# Altium footprint library Connector_PinSocket_1.27mm.PcbLib: 246 footprints (part 12 of 16)
Each footprint in its own frame and in the unit in brackets; x right, y up, seen from the top. Pads: shape width x height; smd on the part's side, far side on the other; paste and mask are expansions set on the pad; w line width, h text height; cw(c..) or ccw(c..) is an arc to the next point about the centre after c.
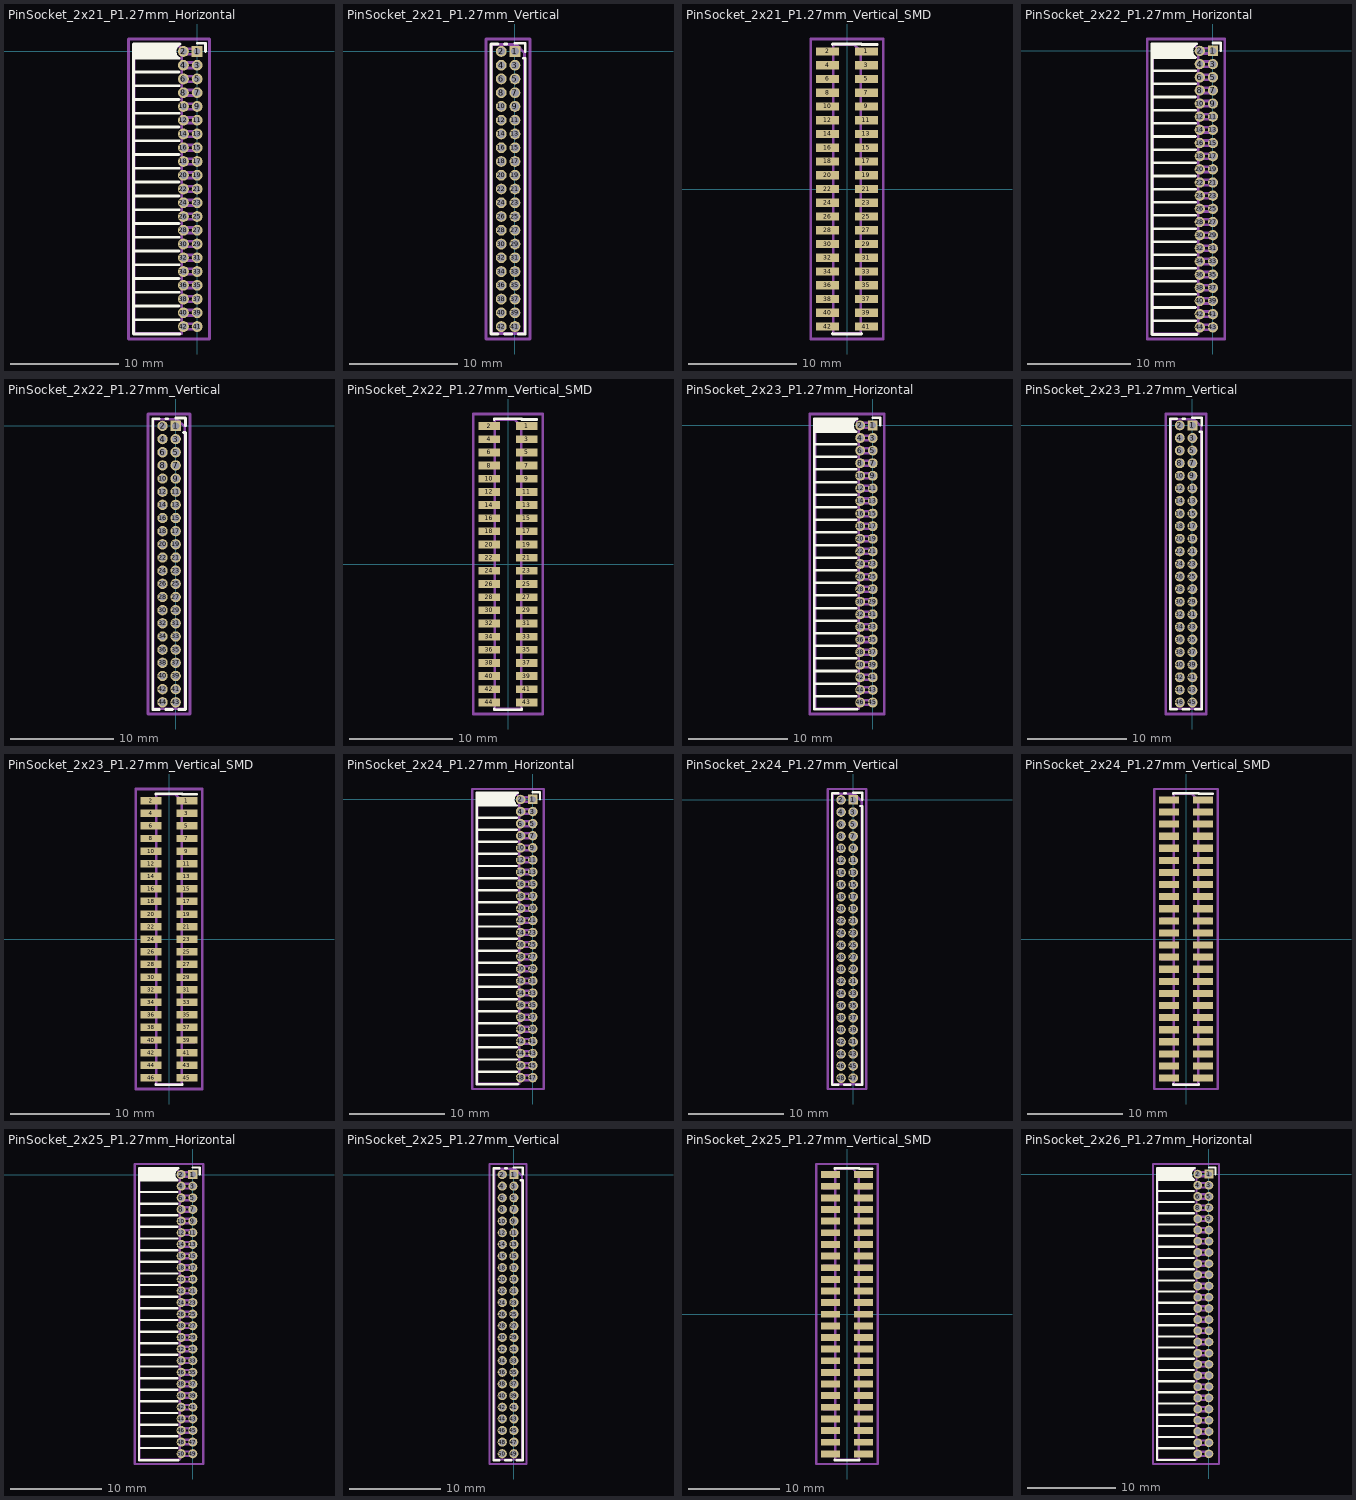
[diagram p11: the footprints below, top view; thin cyan lines are the x and y axes]

## PinSocket_2x21_P1.27mm_Horizontal [mm]
pads (42):
  rect 1x1 hole 0.65: 1(0,0)
  round 1 hole 0.65: 2(-1.27,0) 3(0,-1.27) 4(-1.27,-1.27) 5(0,-2.54) 6(-1.27,-2.54) 7(0,-3.81) 8(-1.27,-3.81) 9(0,-5.08) 10(-1.27,-5.08) 11(0,-6.35) 12(-1.27,-6.35) 13(0,-7.62) 14(-1.27,-7.62) 15(0,-8.89) 16(-1.27,-8.89) 17(0,-10.16) 18(-1.27,-10.16) 19(0,-11.43) 20(-1.27,-11.43) 21(0,-12.7) 22(-1.27,-12.7) 23(0,-13.97) 24(-1.27,-13.97) 25(0,-15.24) 26(-1.27,-15.24) 27(0,-16.51) 28(-1.27,-16.51) 29(0,-17.78) 30(-1.27,-17.78) 31(0,-19.05) 32(-1.27,-19.05) 33(0,-20.32) 34(-1.27,-20.32) 35(0,-21.59) 36(-1.27,-21.59) 37(0,-22.86) 38(-1.27,-22.86) 39(0,-24.13) 40(-1.27,-24.13) 41(0,-25.4) 42(-1.27,-25.4)
F.SilkS:
  lines w0.254: -5.88,-24.765 -1.688,-24.765 ; -5.88,-23.495 -1.688,-23.495 ; -5.88,-22.225 -1.688,-22.225 ; -5.88,-20.955 -1.688,-20.955 ; -5.88,-19.685 -1.688,-19.685 ; -5.88,-18.415 -1.688,-18.415 ; -5.88,-17.145 -1.688,-17.145 ; -5.88,-15.875 -1.688,-15.875 ; -5.88,-14.605 -1.688,-14.605 ; -5.88,-13.335 -1.688,-13.335 ; -5.88,-12.065 -1.688,-12.065 ; -5.88,-10.795 -1.688,-10.795 ; -5.88,-9.525 -1.688,-9.525 ; -5.88,-8.255 -1.688,-8.255 ; -5.88,-6.985 -1.688,-6.985 ; -5.88,-5.715 -1.688,-5.715 ; -5.88,-4.445 -1.688,-4.445 ; -5.88,-3.175 -1.688,-3.175 ; -5.88,-1.905 -1.688,-1.905 ; -5.88,-0.635 -1.688,-0.635 ; -5.88,-0.525 -1.82,-0.525 ; -5.88,-0.415 -1.907,-0.415 ; -5.88,-0.305 -1.966,-0.305 ; -5.88,-0.195 -2.005,-0.195 ; -5.88,-0.085 -2.025,-0.085 ; -5.88,0.025 -2.03,0.025 ; -5.88,0.135 -2.018,0.135 ; -5.88,0.245 -1.989,0.245 ; -5.88,0.355 -1.942,0.355 ; -5.88,0.465 -1.871,0.465 ; -5.88,0.575 -1.767,0.575 ; -1.578,-26.095 -5.88,-26.095 -5.88,0.695 -1.578,0.695 ; 0,0.76 0.76,0.76 0.76,0
Top Assembly:
  lines w0.254: -1.42,-25.65 0,-25.65 0,-25.15 -1.42,-25.15 ; -1.42,-24.38 0,-24.38 0,-23.88 -1.42,-23.88 ; -1.42,-23.11 0,-23.11 0,-22.61 -1.42,-22.61 ; -1.42,-21.84 0,-21.84 0,-21.34 -1.42,-21.34 ; -1.42,-20.57 0,-20.57 0,-20.07 -1.42,-20.07 ; -1.42,-19.3 0,-19.3 0,-18.8 -1.42,-18.8 ; -1.42,-18.03 0,-18.03 0,-17.53 -1.42,-17.53 ; -1.42,-16.76 0,-16.76 0,-16.26 -1.42,-16.26 ; -1.42,-15.49 0,-15.49 0,-14.99 -1.42,-14.99 ; -1.42,-14.22 0,-14.22 0,-13.72 -1.42,-13.72 ; -1.42,-12.95 0,-12.95 0,-12.45 -1.42,-12.45 ; -1.42,-11.68 0,-11.68 0,-11.18 -1.42,-11.18 ; -1.42,-10.41 0,-10.41 0,-9.91 -1.42,-9.91 ; -1.42,-9.14 0,-9.14 0,-8.64 -1.42,-8.64 ; -1.42,-7.87 0,-7.87 0,-7.37 -1.42,-7.37 ; -1.42,-6.6 0,-6.6 0,-6.1 -1.42,-6.1 ; -1.42,-5.33 0,-5.33 0,-4.83 -1.42,-4.83 ; -1.42,-4.06 0,-4.06 0,-3.56 -1.42,-3.56 ; -1.42,-2.79 0,-2.79 0,-2.29 -1.42,-2.29 ; -1.42,-1.52 0,-1.52 0,-1.02 -1.42,-1.02 ; -1.42,-0.25 0,-0.25 0,0.25 -1.42,0.25 ; -1.42,0.25 -1.42,-26.035 -5.82,-26.035 -5.82,0.635 -1.805,0.635 -1.42,0.25
  text "'.Designator'" at -2.78,-16.747 h1
Top Courtyard:
  lines w0.254: -6.35,-26.55 1.15,-26.55 1.15,1.15 -6.35,1.15 -6.35,-26.55
Top Designator:
  text ".Designator" at -10.218,-13.208 h1.52

## PinSocket_2x21_P1.27mm_Vertical [mm]
pads (42):
  rect 1x1 hole 0.7: 1(0,0)
  round 1 hole 0.7: 2(-1.27,0) 3(0,-1.27) 4(-1.27,-1.27) 5(0,-2.54) 6(-1.27,-2.54) 7(0,-3.81) 8(-1.27,-3.81) 9(0,-5.08) 10(-1.27,-5.08) 11(0,-6.35) 12(-1.27,-6.35) 13(0,-7.62) 14(-1.27,-7.62) 15(0,-8.89) 16(-1.27,-8.89) 17(0,-10.16) 18(-1.27,-10.16) 19(0,-11.43) 20(-1.27,-11.43) 21(0,-12.7) 22(-1.27,-12.7) 23(0,-13.97) 24(-1.27,-13.97) 25(0,-15.24) 26(-1.27,-15.24) 27(0,-16.51) 28(-1.27,-16.51) 29(0,-17.78) 30(-1.27,-17.78) 31(0,-19.05) 32(-1.27,-19.05) 33(0,-20.32) 34(-1.27,-20.32) 35(0,-21.59) 36(-1.27,-21.59) 37(0,-22.86) 38(-1.27,-22.86) 39(0,-24.13) 40(-1.27,-24.13) 41(0,-25.4) 42(-1.27,-25.4)
F.SilkS:
  lines w0.254: -1.578,-26.095 -2.22,-26.095 -2.22,0.695 -1.578,0.695 ; -0.962,-26.095 -0.308,-26.095 ; -0.962,0.695 -0.76,0.695 ; 0,0.76 0.95,0.76 0.95,0 ; 0.308,-26.095 0.95,-26.095 0.95,-0.635 0.76,-0.635
Top Assembly:
  lines w0.254: -2.16,-26.035 0.89,-26.035 0.89,-0.128 0.128,0.635 -2.16,0.635 -2.16,-26.035
  text "'.Designator'" at 0.205,-16.747 h1
Top Courtyard:
  lines w0.254: -2.67,-26.55 1.38,-26.55 1.38,1.15 -2.67,1.15 -2.67,-26.55
Top Designator:
  text ".Designator" at -8.263,-13.208 h1.52

## PinSocket_2x21_P1.27mm_Vertical_SMD [mm]
pads (42):
  rect 2.1x0.75 smd: 1(1.8,12.7) 2(-1.8,12.7) 3(1.8,11.43) 4(-1.8,11.43) 5(1.8,10.16) 6(-1.8,10.16) 7(1.8,8.89) 8(-1.8,8.89) 9(1.8,7.62) 10(-1.8,7.62) 11(1.8,6.35) 12(-1.8,6.35) 13(1.8,5.08) 14(-1.8,5.08) 15(1.8,3.81) 16(-1.8,3.81) 17(1.8,2.54) 18(-1.8,2.54) 19(1.8,1.27) 20(-1.8,1.27) 21(1.8,0) 22(-1.8,0) 23(1.8,-1.27) 24(-1.8,-1.27) 25(1.8,-2.54) 26(-1.8,-2.54) 27(1.8,-3.81) 28(-1.8,-3.81) 29(1.8,-5.08) 30(-1.8,-5.08) 31(1.8,-6.35) 32(-1.8,-6.35) 33(1.8,-7.62) 34(-1.8,-7.62) 35(1.8,-8.89) 36(-1.8,-8.89) 37(1.8,-10.16) 38(-1.8,-10.16) 39(1.8,-11.43) 40(-1.8,-11.43) 41(1.8,-12.7) 42(-1.8,-12.7)
F.SilkS:
  lines w0.254: -1.33,-13.335 -1.33,-13.395 1.33,-13.395 1.33,-13.335 ; -1.33,13.335 -1.33,13.395 1.33,13.395 1.33,13.335 2.79,13.335
Top Assembly:
  lines w0.254: -1.27,-12.9 -2.555,-12.9 -2.555,-12.5 -1.27,-12.5 ; -1.27,-11.63 -2.555,-11.63 -2.555,-11.23 -1.27,-11.23 ; -1.27,-10.36 -2.555,-10.36 -2.555,-9.96 -1.27,-9.96 ; -1.27,-9.09 -2.555,-9.09 -2.555,-8.69 -1.27,-8.69 ; -1.27,-7.82 -2.555,-7.82 -2.555,-7.42 -1.27,-7.42 ; -1.27,-6.55 -2.555,-6.55 -2.555,-6.15 -1.27,-6.15 ; -1.27,-5.28 -2.555,-5.28 -2.555,-4.88 -1.27,-4.88 ; -1.27,-4.01 -2.555,-4.01 -2.555,-3.61 -1.27,-3.61 ; -1.27,-2.74 -2.555,-2.74 -2.555,-2.34 -1.27,-2.34 ; -1.27,-1.47 -2.555,-1.47 -2.555,-1.07 -1.27,-1.07 ; -1.27,-0.2 -2.555,-0.2 -2.555,0.2 -1.27,0.2 ; -1.27,1.07 -2.555,1.07 -2.555,1.47 -1.27,1.47 ; -1.27,2.34 -2.555,2.34 -2.555,2.74 -1.27,2.74 ; -1.27,3.61 -2.555,3.61 -2.555,4.01 -1.27,4.01 ; -1.27,4.88 -2.555,4.88 -2.555,5.28 -1.27,5.28 ; -1.27,6.15 -2.555,6.15 -2.555,6.55 -1.27,6.55 ; -1.27,7.42 -2.555,7.42 -2.555,7.82 -1.27,7.82 ; -1.27,8.69 -2.555,8.69 -2.555,9.09 -1.27,9.09 ; -1.27,9.96 -2.555,9.96 -2.555,10.36 -1.27,10.36 ; -1.27,11.23 -2.555,11.23 -2.555,11.63 -1.27,11.63 ; -1.27,12.5 -2.555,12.5 -2.555,12.9 -1.27,12.9 ; 1.27,-12.9 2.555,-12.9 2.555,-12.5 1.27,-12.5 ; 1.27,-11.63 2.555,-11.63 2.555,-11.23 1.27,-11.23 ; 1.27,-10.36 2.555,-10.36 2.555,-9.96 1.27,-9.96 ; 1.27,-9.09 2.555,-9.09 2.555,-8.69 1.27,-8.69 ; 1.27,-7.82 2.555,-7.82 2.555,-7.42 1.27,-7.42 ; 1.27,-6.55 2.555,-6.55 2.555,-6.15 1.27,-6.15 ; 1.27,-5.28 2.555,-5.28 2.555,-4.88 1.27,-4.88 ; 1.27,-4.01 2.555,-4.01 2.555,-3.61 1.27,-3.61 ; 1.27,-2.74 2.555,-2.74 2.555,-2.34 1.27,-2.34 ; 1.27,-1.47 2.555,-1.47 2.555,-1.07 1.27,-1.07 ; 1.27,-0.2 2.555,-0.2 2.555,0.2 1.27,0.2 ; 1.27,1.07 2.555,1.07 2.555,1.47 1.27,1.47 ; 1.27,2.34 2.555,2.34 2.555,2.74 1.27,2.74 ; 1.27,3.61 2.555,3.61 2.555,4.01 1.27,4.01 ; 1.27,4.88 2.555,4.88 2.555,5.28 1.27,5.28 ; 1.27,6.15 2.555,6.15 2.555,6.55 1.27,6.55 ; 1.27,7.42 2.555,7.42 2.555,7.82 1.27,7.82 ; 1.27,8.69 2.555,8.69 2.555,9.09 1.27,9.09 ; 1.27,9.96 2.555,9.96 2.555,10.36 1.27,10.36 ; 1.27,11.23 2.555,11.23 2.555,11.63 1.27,11.63 ; 1.27,12.5 2.555,12.5 2.555,12.9 1.27,12.9 ; -1.27,-13.335 1.27,-13.335 1.27,12.7 0.635,13.335 -1.27,13.335 -1.27,-13.335
  text "'.Designator'" at 0.84,-4.047 h1
Top Courtyard:
  lines w0.254: -3.35,-13.85 3.35,-13.85 3.35,13.85 -3.35,13.85 -3.35,-13.85
Top Designator:
  text ".Designator" at -7.618,-0.508 h1.52

## PinSocket_2x22_P1.27mm_Horizontal [mm]
pads (44):
  rect 1x1 hole 0.65: 1(0,0)
  round 1 hole 0.65: 2(-1.27,0) 3(0,-1.27) 4(-1.27,-1.27) 5(0,-2.54) 6(-1.27,-2.54) 7(0,-3.81) 8(-1.27,-3.81) 9(0,-5.08) 10(-1.27,-5.08) 11(0,-6.35) 12(-1.27,-6.35) 13(0,-7.62) 14(-1.27,-7.62) 15(0,-8.89) 16(-1.27,-8.89) 17(0,-10.16) 18(-1.27,-10.16) 19(0,-11.43) 20(-1.27,-11.43) 21(0,-12.7) 22(-1.27,-12.7) 23(0,-13.97) 24(-1.27,-13.97) 25(0,-15.24) 26(-1.27,-15.24) 27(0,-16.51) 28(-1.27,-16.51) 29(0,-17.78) 30(-1.27,-17.78) 31(0,-19.05) 32(-1.27,-19.05) 33(0,-20.32) 34(-1.27,-20.32) 35(0,-21.59) 36(-1.27,-21.59) 37(0,-22.86) 38(-1.27,-22.86) 39(0,-24.13) 40(-1.27,-24.13) 41(0,-25.4) 42(-1.27,-25.4) 43(0,-26.67) 44(-1.27,-26.67)
F.SilkS:
  lines w0.254: -5.88,-26.035 -1.688,-26.035 ; -5.88,-24.765 -1.688,-24.765 ; -5.88,-23.495 -1.688,-23.495 ; -5.88,-22.225 -1.688,-22.225 ; -5.88,-20.955 -1.688,-20.955 ; -5.88,-19.685 -1.688,-19.685 ; -5.88,-18.415 -1.688,-18.415 ; -5.88,-17.145 -1.688,-17.145 ; -5.88,-15.875 -1.688,-15.875 ; -5.88,-14.605 -1.688,-14.605 ; -5.88,-13.335 -1.688,-13.335 ; -5.88,-12.065 -1.688,-12.065 ; -5.88,-10.795 -1.688,-10.795 ; -5.88,-9.525 -1.688,-9.525 ; -5.88,-8.255 -1.688,-8.255 ; -5.88,-6.985 -1.688,-6.985 ; -5.88,-5.715 -1.688,-5.715 ; -5.88,-4.445 -1.688,-4.445 ; -5.88,-3.175 -1.688,-3.175 ; -5.88,-1.905 -1.688,-1.905 ; -5.88,-0.635 -1.688,-0.635 ; -5.88,-0.525 -1.82,-0.525 ; -5.88,-0.415 -1.907,-0.415 ; -5.88,-0.305 -1.966,-0.305 ; -5.88,-0.195 -2.005,-0.195 ; -5.88,-0.085 -2.025,-0.085 ; -5.88,0.025 -2.03,0.025 ; -5.88,0.135 -2.018,0.135 ; -5.88,0.245 -1.989,0.245 ; -5.88,0.355 -1.942,0.355 ; -5.88,0.465 -1.871,0.465 ; -5.88,0.575 -1.767,0.575 ; -1.578,-27.365 -5.88,-27.365 -5.88,0.695 -1.578,0.695 ; 0,0.76 0.76,0.76 0.76,0
Top Assembly:
  lines w0.254: -1.42,-26.92 0,-26.92 0,-26.42 -1.42,-26.42 ; -1.42,-25.65 0,-25.65 0,-25.15 -1.42,-25.15 ; -1.42,-24.38 0,-24.38 0,-23.88 -1.42,-23.88 ; -1.42,-23.11 0,-23.11 0,-22.61 -1.42,-22.61 ; -1.42,-21.84 0,-21.84 0,-21.34 -1.42,-21.34 ; -1.42,-20.57 0,-20.57 0,-20.07 -1.42,-20.07 ; -1.42,-19.3 0,-19.3 0,-18.8 -1.42,-18.8 ; -1.42,-18.03 0,-18.03 0,-17.53 -1.42,-17.53 ; -1.42,-16.76 0,-16.76 0,-16.26 -1.42,-16.26 ; -1.42,-15.49 0,-15.49 0,-14.99 -1.42,-14.99 ; -1.42,-14.22 0,-14.22 0,-13.72 -1.42,-13.72 ; -1.42,-12.95 0,-12.95 0,-12.45 -1.42,-12.45 ; -1.42,-11.68 0,-11.68 0,-11.18 -1.42,-11.18 ; -1.42,-10.41 0,-10.41 0,-9.91 -1.42,-9.91 ; -1.42,-9.14 0,-9.14 0,-8.64 -1.42,-8.64 ; -1.42,-7.87 0,-7.87 0,-7.37 -1.42,-7.37 ; -1.42,-6.6 0,-6.6 0,-6.1 -1.42,-6.1 ; -1.42,-5.33 0,-5.33 0,-4.83 -1.42,-4.83 ; -1.42,-4.06 0,-4.06 0,-3.56 -1.42,-3.56 ; -1.42,-2.79 0,-2.79 0,-2.29 -1.42,-2.29 ; -1.42,-1.52 0,-1.52 0,-1.02 -1.42,-1.02 ; -1.42,-0.25 0,-0.25 0,0.25 -1.42,0.25 ; -1.42,0.25 -1.42,-27.305 -5.82,-27.305 -5.82,0.635 -1.805,0.635 -1.42,0.25
  text "'.Designator'" at -2.78,-17.382 h1
Top Courtyard:
  lines w0.254: -6.35,-27.8 1.15,-27.8 1.15,1.15 -6.35,1.15 -6.35,-27.8
Top Designator:
  text ".Designator" at -10.218,-13.833 h1.52

## PinSocket_2x22_P1.27mm_Vertical [mm]
pads (44):
  rect 1x1 hole 0.7: 1(0,0)
  round 1 hole 0.7: 2(-1.27,0) 3(0,-1.27) 4(-1.27,-1.27) 5(0,-2.54) 6(-1.27,-2.54) 7(0,-3.81) 8(-1.27,-3.81) 9(0,-5.08) 10(-1.27,-5.08) 11(0,-6.35) 12(-1.27,-6.35) 13(0,-7.62) 14(-1.27,-7.62) 15(0,-8.89) 16(-1.27,-8.89) 17(0,-10.16) 18(-1.27,-10.16) 19(0,-11.43) 20(-1.27,-11.43) 21(0,-12.7) 22(-1.27,-12.7) 23(0,-13.97) 24(-1.27,-13.97) 25(0,-15.24) 26(-1.27,-15.24) 27(0,-16.51) 28(-1.27,-16.51) 29(0,-17.78) 30(-1.27,-17.78) 31(0,-19.05) 32(-1.27,-19.05) 33(0,-20.32) 34(-1.27,-20.32) 35(0,-21.59) 36(-1.27,-21.59) 37(0,-22.86) 38(-1.27,-22.86) 39(0,-24.13) 40(-1.27,-24.13) 41(0,-25.4) 42(-1.27,-25.4) 43(0,-26.67) 44(-1.27,-26.67)
F.SilkS:
  lines w0.254: -1.578,-27.365 -2.22,-27.365 -2.22,0.695 -1.578,0.695 ; -0.962,-27.365 -0.308,-27.365 ; -0.962,0.695 -0.76,0.695 ; 0,0.76 0.95,0.76 0.95,0 ; 0.308,-27.365 0.95,-27.365 0.95,-0.635 0.76,-0.635
Top Assembly:
  lines w0.254: -2.16,-27.305 0.89,-27.305 0.89,-0.128 0.128,0.635 -2.16,0.635 -2.16,-27.305
  text "'.Designator'" at 0.205,-17.382 h1
Top Courtyard:
  lines w0.254: -2.67,-27.8 1.38,-27.8 1.38,1.15 -2.67,1.15 -2.67,-27.8
Top Designator:
  text ".Designator" at -8.263,-13.833 h1.52

## PinSocket_2x22_P1.27mm_Vertical_SMD [mm]
pads (44):
  rect 2.1x0.75 smd: 1(1.8,13.335) 2(-1.8,13.335) 3(1.8,12.065) 4(-1.8,12.065) 5(1.8,10.795) 6(-1.8,10.795) 7(1.8,9.525) 8(-1.8,9.525) 9(1.8,8.255) 10(-1.8,8.255) 11(1.8,6.985) 12(-1.8,6.985) 13(1.8,5.715) 14(-1.8,5.715) 15(1.8,4.445) 16(-1.8,4.445) 17(1.8,3.175) 18(-1.8,3.175) 19(1.8,1.905) 20(-1.8,1.905) 21(1.8,0.635) 22(-1.8,0.635) 23(1.8,-0.635) 24(-1.8,-0.635) 25(1.8,-1.905) 26(-1.8,-1.905) 27(1.8,-3.175) 28(-1.8,-3.175) 29(1.8,-4.445) 30(-1.8,-4.445) 31(1.8,-5.715) 32(-1.8,-5.715) 33(1.8,-6.985) 34(-1.8,-6.985) 35(1.8,-8.255) 36(-1.8,-8.255) 37(1.8,-9.525) 38(-1.8,-9.525) 39(1.8,-10.795) 40(-1.8,-10.795) 41(1.8,-12.065) 42(-1.8,-12.065) 43(1.8,-13.335) 44(-1.8,-13.335)
F.SilkS:
  lines w0.254: -1.33,-13.97 -1.33,-14.03 1.33,-14.03 1.33,-13.97 ; -1.33,13.97 -1.33,14.03 1.33,14.03 1.33,13.97 2.79,13.97
Top Assembly:
  lines w0.254: -1.27,-13.535 -2.555,-13.535 -2.555,-13.135 -1.27,-13.135 ; -1.27,-12.265 -2.555,-12.265 -2.555,-11.865 -1.27,-11.865 ; -1.27,-10.995 -2.555,-10.995 -2.555,-10.595 -1.27,-10.595 ; -1.27,-9.725 -2.555,-9.725 -2.555,-9.325 -1.27,-9.325 ; -1.27,-8.455 -2.555,-8.455 -2.555,-8.055 -1.27,-8.055 ; -1.27,-7.185 -2.555,-7.185 -2.555,-6.785 -1.27,-6.785 ; -1.27,-5.915 -2.555,-5.915 -2.555,-5.515 -1.27,-5.515 ; -1.27,-4.645 -2.555,-4.645 -2.555,-4.245 -1.27,-4.245 ; -1.27,-3.375 -2.555,-3.375 -2.555,-2.975 -1.27,-2.975 ; -1.27,-2.105 -2.555,-2.105 -2.555,-1.705 -1.27,-1.705 ; -1.27,-0.835 -2.555,-0.835 -2.555,-0.435 -1.27,-0.435 ; -1.27,0.435 -2.555,0.435 -2.555,0.835 -1.27,0.835 ; -1.27,1.705 -2.555,1.705 -2.555,2.105 -1.27,2.105 ; -1.27,2.975 -2.555,2.975 -2.555,3.375 -1.27,3.375 ; -1.27,4.245 -2.555,4.245 -2.555,4.645 -1.27,4.645 ; -1.27,5.515 -2.555,5.515 -2.555,5.915 -1.27,5.915 ; -1.27,6.785 -2.555,6.785 -2.555,7.185 -1.27,7.185 ; -1.27,8.055 -2.555,8.055 -2.555,8.455 -1.27,8.455 ; -1.27,9.325 -2.555,9.325 -2.555,9.725 -1.27,9.725 ; -1.27,10.595 -2.555,10.595 -2.555,10.995 -1.27,10.995 ; -1.27,11.865 -2.555,11.865 -2.555,12.265 -1.27,12.265 ; -1.27,13.135 -2.555,13.135 -2.555,13.535 -1.27,13.535 ; 1.27,-13.535 2.555,-13.535 2.555,-13.135 1.27,-13.135 ; 1.27,-12.265 2.555,-12.265 2.555,-11.865 1.27,-11.865 ; 1.27,-10.995 2.555,-10.995 2.555,-10.595 1.27,-10.595 ; 1.27,-9.725 2.555,-9.725 2.555,-9.325 1.27,-9.325 ; 1.27,-8.455 2.555,-8.455 2.555,-8.055 1.27,-8.055 ; 1.27,-7.185 2.555,-7.185 2.555,-6.785 1.27,-6.785 ; 1.27,-5.915 2.555,-5.915 2.555,-5.515 1.27,-5.515 ; 1.27,-4.645 2.555,-4.645 2.555,-4.245 1.27,-4.245 ; 1.27,-3.375 2.555,-3.375 2.555,-2.975 1.27,-2.975 ; 1.27,-2.105 2.555,-2.105 2.555,-1.705 1.27,-1.705 ; 1.27,-0.835 2.555,-0.835 2.555,-0.435 1.27,-0.435 ; 1.27,0.435 2.555,0.435 2.555,0.835 1.27,0.835 ; 1.27,1.705 2.555,1.705 2.555,2.105 1.27,2.105 ; 1.27,2.975 2.555,2.975 2.555,3.375 1.27,3.375 ; 1.27,4.245 2.555,4.245 2.555,4.645 1.27,4.645 ; 1.27,5.515 2.555,5.515 2.555,5.915 1.27,5.915 ; 1.27,6.785 2.555,6.785 2.555,7.185 1.27,7.185 ; 1.27,8.055 2.555,8.055 2.555,8.455 1.27,8.455 ; 1.27,9.325 2.555,9.325 2.555,9.725 1.27,9.725 ; 1.27,10.595 2.555,10.595 2.555,10.995 1.27,10.995 ; 1.27,11.865 2.555,11.865 2.555,12.265 1.27,12.265 ; 1.27,13.135 2.555,13.135 2.555,13.535 1.27,13.535 ; -1.27,-13.97 1.27,-13.97 1.27,13.335 0.635,13.97 -1.27,13.97 -1.27,-13.97
  text "'.Designator'" at 0.84,-4.047 h1
Top Courtyard:
  lines w0.254: -3.35,-14.45 3.35,-14.45 3.35,14.5 -3.35,14.5 -3.35,-14.45
Top Designator:
  text ".Designator" at -7.618,-0.483 h1.52

## PinSocket_2x23_P1.27mm_Horizontal [mm]
pads (46):
  rect 1x1 hole 0.65: 1(0,0)
  round 1 hole 0.65: 2(-1.27,0) 3(0,-1.27) 4(-1.27,-1.27) 5(0,-2.54) 6(-1.27,-2.54) 7(0,-3.81) 8(-1.27,-3.81) 9(0,-5.08) 10(-1.27,-5.08) 11(0,-6.35) 12(-1.27,-6.35) 13(0,-7.62) 14(-1.27,-7.62) 15(0,-8.89) 16(-1.27,-8.89) 17(0,-10.16) 18(-1.27,-10.16) 19(0,-11.43) 20(-1.27,-11.43) 21(0,-12.7) 22(-1.27,-12.7) 23(0,-13.97) 24(-1.27,-13.97) 25(0,-15.24) 26(-1.27,-15.24) 27(0,-16.51) 28(-1.27,-16.51) 29(0,-17.78) 30(-1.27,-17.78) 31(0,-19.05) 32(-1.27,-19.05) 33(0,-20.32) 34(-1.27,-20.32) 35(0,-21.59) 36(-1.27,-21.59) 37(0,-22.86) 38(-1.27,-22.86) 39(0,-24.13) 40(-1.27,-24.13) 41(0,-25.4) 42(-1.27,-25.4) 43(0,-26.67) 44(-1.27,-26.67) 45(0,-27.94) 46(-1.27,-27.94)
F.SilkS:
  lines w0.254: -5.88,-27.305 -1.688,-27.305 ; -5.88,-26.035 -1.688,-26.035 ; -5.88,-24.765 -1.688,-24.765 ; -5.88,-23.495 -1.688,-23.495 ; -5.88,-22.225 -1.688,-22.225 ; -5.88,-20.955 -1.688,-20.955 ; -5.88,-19.685 -1.688,-19.685 ; -5.88,-18.415 -1.688,-18.415 ; -5.88,-17.145 -1.688,-17.145 ; -5.88,-15.875 -1.688,-15.875 ; -5.88,-14.605 -1.688,-14.605 ; -5.88,-13.335 -1.688,-13.335 ; -5.88,-12.065 -1.688,-12.065 ; -5.88,-10.795 -1.688,-10.795 ; -5.88,-9.525 -1.688,-9.525 ; -5.88,-8.255 -1.688,-8.255 ; -5.88,-6.985 -1.688,-6.985 ; -5.88,-5.715 -1.688,-5.715 ; -5.88,-4.445 -1.688,-4.445 ; -5.88,-3.175 -1.688,-3.175 ; -5.88,-1.905 -1.688,-1.905 ; -5.88,-0.635 -1.688,-0.635 ; -5.88,-0.525 -1.82,-0.525 ; -5.88,-0.415 -1.907,-0.415 ; -5.88,-0.305 -1.966,-0.305 ; -5.88,-0.195 -2.005,-0.195 ; -5.88,-0.085 -2.025,-0.085 ; -5.88,0.025 -2.03,0.025 ; -5.88,0.135 -2.018,0.135 ; -5.88,0.245 -1.989,0.245 ; -5.88,0.355 -1.942,0.355 ; -5.88,0.465 -1.871,0.465 ; -5.88,0.575 -1.767,0.575 ; -1.578,-28.635 -5.88,-28.635 -5.88,0.695 -1.578,0.695 ; 0,0.76 0.76,0.76 0.76,0
Top Assembly:
  lines w0.254: -1.42,-28.19 0,-28.19 0,-27.69 -1.42,-27.69 ; -1.42,-26.92 0,-26.92 0,-26.42 -1.42,-26.42 ; -1.42,-25.65 0,-25.65 0,-25.15 -1.42,-25.15 ; -1.42,-24.38 0,-24.38 0,-23.88 -1.42,-23.88 ; -1.42,-23.11 0,-23.11 0,-22.61 -1.42,-22.61 ; -1.42,-21.84 0,-21.84 0,-21.34 -1.42,-21.34 ; -1.42,-20.57 0,-20.57 0,-20.07 -1.42,-20.07 ; -1.42,-19.3 0,-19.3 0,-18.8 -1.42,-18.8 ; -1.42,-18.03 0,-18.03 0,-17.53 -1.42,-17.53 ; -1.42,-16.76 0,-16.76 0,-16.26 -1.42,-16.26 ; -1.42,-15.49 0,-15.49 0,-14.99 -1.42,-14.99 ; -1.42,-14.22 0,-14.22 0,-13.72 -1.42,-13.72 ; -1.42,-12.95 0,-12.95 0,-12.45 -1.42,-12.45 ; -1.42,-11.68 0,-11.68 0,-11.18 -1.42,-11.18 ; -1.42,-10.41 0,-10.41 0,-9.91 -1.42,-9.91 ; -1.42,-9.14 0,-9.14 0,-8.64 -1.42,-8.64 ; -1.42,-7.87 0,-7.87 0,-7.37 -1.42,-7.37 ; -1.42,-6.6 0,-6.6 0,-6.1 -1.42,-6.1 ; -1.42,-5.33 0,-5.33 0,-4.83 -1.42,-4.83 ; -1.42,-4.06 0,-4.06 0,-3.56 -1.42,-3.56 ; -1.42,-2.79 0,-2.79 0,-2.29 -1.42,-2.29 ; -1.42,-1.52 0,-1.52 0,-1.02 -1.42,-1.02 ; -1.42,-0.25 0,-0.25 0,0.25 -1.42,0.25 ; -1.42,0.25 -1.42,-28.575 -5.82,-28.575 -5.82,0.635 -1.805,0.635 -1.42,0.25
  text "'.Designator'" at -2.78,-18.017 h1
Top Courtyard:
  lines w0.254: -6.35,-29.1 1.15,-29.1 1.15,1.15 -6.35,1.15 -6.35,-29.1
Top Designator:
  text ".Designator" at -10.218,-14.483 h1.52

## PinSocket_2x23_P1.27mm_Vertical [mm]
pads (46):
  rect 1x1 hole 0.7: 1(0,0)
  round 1 hole 0.7: 2(-1.27,0) 3(0,-1.27) 4(-1.27,-1.27) 5(0,-2.54) 6(-1.27,-2.54) 7(0,-3.81) 8(-1.27,-3.81) 9(0,-5.08) 10(-1.27,-5.08) 11(0,-6.35) 12(-1.27,-6.35) 13(0,-7.62) 14(-1.27,-7.62) 15(0,-8.89) 16(-1.27,-8.89) 17(0,-10.16) 18(-1.27,-10.16) 19(0,-11.43) 20(-1.27,-11.43) 21(0,-12.7) 22(-1.27,-12.7) 23(0,-13.97) 24(-1.27,-13.97) 25(0,-15.24) 26(-1.27,-15.24) 27(0,-16.51) 28(-1.27,-16.51) 29(0,-17.78) 30(-1.27,-17.78) 31(0,-19.05) 32(-1.27,-19.05) 33(0,-20.32) 34(-1.27,-20.32) 35(0,-21.59) 36(-1.27,-21.59) 37(0,-22.86) 38(-1.27,-22.86) 39(0,-24.13) 40(-1.27,-24.13) 41(0,-25.4) 42(-1.27,-25.4) 43(0,-26.67) 44(-1.27,-26.67) 45(0,-27.94) 46(-1.27,-27.94)
F.SilkS:
  lines w0.254: -1.578,-28.635 -2.22,-28.635 -2.22,0.695 -1.578,0.695 ; -0.962,-28.635 -0.308,-28.635 ; -0.962,0.695 -0.76,0.695 ; 0,0.76 0.95,0.76 0.95,0 ; 0.308,-28.635 0.95,-28.635 0.95,-0.635 0.76,-0.635
Top Assembly:
  lines w0.254: -2.16,-28.575 0.89,-28.575 0.89,-0.128 0.128,0.635 -2.16,0.635 -2.16,-28.575
  text "'.Designator'" at 0.205,-18.017 h1
Top Courtyard:
  lines w0.254: -2.67,-29.1 1.38,-29.1 1.38,1.15 -2.67,1.15 -2.67,-29.1
Top Designator:
  text ".Designator" at -8.263,-14.483 h1.52

## PinSocket_2x23_P1.27mm_Vertical_SMD [mm]
pads (46):
  rect 2.1x0.75 smd: 1(1.8,13.97) 2(-1.8,13.97) 3(1.8,12.7) 4(-1.8,12.7) 5(1.8,11.43) 6(-1.8,11.43) 7(1.8,10.16) 8(-1.8,10.16) 9(1.8,8.89) 10(-1.8,8.89) 11(1.8,7.62) 12(-1.8,7.62) 13(1.8,6.35) 14(-1.8,6.35) 15(1.8,5.08) 16(-1.8,5.08) 17(1.8,3.81) 18(-1.8,3.81) 19(1.8,2.54) 20(-1.8,2.54) 21(1.8,1.27) 22(-1.8,1.27) 23(1.8,0) 24(-1.8,0) 25(1.8,-1.27) 26(-1.8,-1.27) 27(1.8,-2.54) 28(-1.8,-2.54) 29(1.8,-3.81) 30(-1.8,-3.81) 31(1.8,-5.08) 32(-1.8,-5.08) 33(1.8,-6.35) 34(-1.8,-6.35) 35(1.8,-7.62) 36(-1.8,-7.62) 37(1.8,-8.89) 38(-1.8,-8.89) 39(1.8,-10.16) 40(-1.8,-10.16) 41(1.8,-11.43) 42(-1.8,-11.43) 43(1.8,-12.7) 44(-1.8,-12.7) 45(1.8,-13.97) 46(-1.8,-13.97)
F.SilkS:
  lines w0.254: -1.33,-14.605 -1.33,-14.665 1.33,-14.665 1.33,-14.605 ; -1.33,14.605 -1.33,14.665 1.33,14.665 1.33,14.605 2.79,14.605
Top Assembly:
  lines w0.254: -1.27,-14.17 -2.555,-14.17 -2.555,-13.77 -1.27,-13.77 ; -1.27,-12.9 -2.555,-12.9 -2.555,-12.5 -1.27,-12.5 ; -1.27,-11.63 -2.555,-11.63 -2.555,-11.23 -1.27,-11.23 ; -1.27,-10.36 -2.555,-10.36 -2.555,-9.96 -1.27,-9.96 ; -1.27,-9.09 -2.555,-9.09 -2.555,-8.69 -1.27,-8.69 ; -1.27,-7.82 -2.555,-7.82 -2.555,-7.42 -1.27,-7.42 ; -1.27,-6.55 -2.555,-6.55 -2.555,-6.15 -1.27,-6.15 ; -1.27,-5.28 -2.555,-5.28 -2.555,-4.88 -1.27,-4.88 ; -1.27,-4.01 -2.555,-4.01 -2.555,-3.61 -1.27,-3.61 ; -1.27,-2.74 -2.555,-2.74 -2.555,-2.34 -1.27,-2.34 ; -1.27,-1.47 -2.555,-1.47 -2.555,-1.07 -1.27,-1.07 ; -1.27,-0.2 -2.555,-0.2 -2.555,0.2 -1.27,0.2 ; -1.27,1.07 -2.555,1.07 -2.555,1.47 -1.27,1.47 ; -1.27,2.34 -2.555,2.34 -2.555,2.74 -1.27,2.74 ; -1.27,3.61 -2.555,3.61 -2.555,4.01 -1.27,4.01 ; -1.27,4.88 -2.555,4.88 -2.555,5.28 -1.27,5.28 ; -1.27,6.15 -2.555,6.15 -2.555,6.55 -1.27,6.55 ; -1.27,7.42 -2.555,7.42 -2.555,7.82 -1.27,7.82 ; -1.27,8.69 -2.555,8.69 -2.555,9.09 -1.27,9.09 ; -1.27,9.96 -2.555,9.96 -2.555,10.36 -1.27,10.36 ; -1.27,11.23 -2.555,11.23 -2.555,11.63 -1.27,11.63 ; -1.27,12.5 -2.555,12.5 -2.555,12.9 -1.27,12.9 ; -1.27,13.77 -2.555,13.77 -2.555,14.17 -1.27,14.17 ; 1.27,-14.17 2.555,-14.17 2.555,-13.77 1.27,-13.77 ; 1.27,-12.9 2.555,-12.9 2.555,-12.5 1.27,-12.5 ; 1.27,-11.63 2.555,-11.63 2.555,-11.23 1.27,-11.23 ; 1.27,-10.36 2.555,-10.36 2.555,-9.96 1.27,-9.96 ; 1.27,-9.09 2.555,-9.09 2.555,-8.69 1.27,-8.69 ; 1.27,-7.82 2.555,-7.82 2.555,-7.42 1.27,-7.42 ; 1.27,-6.55 2.555,-6.55 2.555,-6.15 1.27,-6.15 ; 1.27,-5.28 2.555,-5.28 2.555,-4.88 1.27,-4.88 ; 1.27,-4.01 2.555,-4.01 2.555,-3.61 1.27,-3.61 ; 1.27,-2.74 2.555,-2.74 2.555,-2.34 1.27,-2.34 ; 1.27,-1.47 2.555,-1.47 2.555,-1.07 1.27,-1.07 ; 1.27,-0.2 2.555,-0.2 2.555,0.2 1.27,0.2 ; 1.27,1.07 2.555,1.07 2.555,1.47 1.27,1.47 ; 1.27,2.34 2.555,2.34 2.555,2.74 1.27,2.74 ; 1.27,3.61 2.555,3.61 2.555,4.01 1.27,4.01 ; 1.27,4.88 2.555,4.88 2.555,5.28 1.27,5.28 ; 1.27,6.15 2.555,6.15 2.555,6.55 1.27,6.55 ; 1.27,7.42 2.555,7.42 2.555,7.82 1.27,7.82 ; 1.27,8.69 2.555,8.69 2.555,9.09 1.27,9.09 ; 1.27,9.96 2.555,9.96 2.555,10.36 1.27,10.36 ; 1.27,11.23 2.555,11.23 2.555,11.63 1.27,11.63 ; 1.27,12.5 2.555,12.5 2.555,12.9 1.27,12.9 ; 1.27,13.77 2.555,13.77 2.555,14.17 1.27,14.17 ; -1.27,-14.605 1.27,-14.605 1.27,13.97 0.635,14.605 -1.27,14.605 -1.27,-14.605
  text "'.Designator'" at 0.84,-4.047 h1
Top Courtyard:
  lines w0.254: -3.35,-15.1 3.35,-15.1 3.35,15.15 -3.35,15.15 -3.35,-15.1
Top Designator:
  text ".Designator" at -7.618,-0.483 h1.52

## PinSocket_2x24_P1.27mm_Horizontal [mm]
pads (48):
  rect 1x1 hole 0.65: 1(0,0)
  round 1 hole 0.65: 2(-1.27,0) 3(0,-1.27) 4(-1.27,-1.27) 5(0,-2.54) 6(-1.27,-2.54) 7(0,-3.81) 8(-1.27,-3.81) 9(0,-5.08) 10(-1.27,-5.08) 11(0,-6.35) 12(-1.27,-6.35) 13(0,-7.62) 14(-1.27,-7.62) 15(0,-8.89) 16(-1.27,-8.89) 17(0,-10.16) 18(-1.27,-10.16) 19(0,-11.43) 20(-1.27,-11.43) 21(0,-12.7) 22(-1.27,-12.7) 23(0,-13.97) 24(-1.27,-13.97) 25(0,-15.24) 26(-1.27,-15.24) 27(0,-16.51) 28(-1.27,-16.51) 29(0,-17.78) 30(-1.27,-17.78) 31(0,-19.05) 32(-1.27,-19.05) 33(0,-20.32) 34(-1.27,-20.32) 35(0,-21.59) 36(-1.27,-21.59) 37(0,-22.86) 38(-1.27,-22.86) 39(0,-24.13) 40(-1.27,-24.13) 41(0,-25.4) 42(-1.27,-25.4) 43(0,-26.67) 44(-1.27,-26.67) 45(0,-27.94) 46(-1.27,-27.94) 47(0,-29.21) 48(-1.27,-29.21)
F.SilkS:
  lines w0.254: -5.88,-28.575 -1.688,-28.575 ; -5.88,-27.305 -1.688,-27.305 ; -5.88,-26.035 -1.688,-26.035 ; -5.88,-24.765 -1.688,-24.765 ; -5.88,-23.495 -1.688,-23.495 ; -5.88,-22.225 -1.688,-22.225 ; -5.88,-20.955 -1.688,-20.955 ; -5.88,-19.685 -1.688,-19.685 ; -5.88,-18.415 -1.688,-18.415 ; -5.88,-17.145 -1.688,-17.145 ; -5.88,-15.875 -1.688,-15.875 ; -5.88,-14.605 -1.688,-14.605 ; -5.88,-13.335 -1.688,-13.335 ; -5.88,-12.065 -1.688,-12.065 ; -5.88,-10.795 -1.688,-10.795 ; -5.88,-9.525 -1.688,-9.525 ; -5.88,-8.255 -1.688,-8.255 ; -5.88,-6.985 -1.688,-6.985 ; -5.88,-5.715 -1.688,-5.715 ; -5.88,-4.445 -1.688,-4.445 ; -5.88,-3.175 -1.688,-3.175 ; -5.88,-1.905 -1.688,-1.905 ; -5.88,-0.635 -1.688,-0.635 ; -5.88,-0.525 -1.82,-0.525 ; -5.88,-0.415 -1.907,-0.415 ; -5.88,-0.305 -1.966,-0.305 ; -5.88,-0.195 -2.005,-0.195 ; -5.88,-0.085 -2.025,-0.085 ; -5.88,0.025 -2.03,0.025 ; -5.88,0.135 -2.018,0.135 ; -5.88,0.245 -1.989,0.245 ; -5.88,0.355 -1.942,0.355 ; -5.88,0.465 -1.871,0.465 ; -5.88,0.575 -1.767,0.575 ; -1.578,-29.905 -5.88,-29.905 -5.88,0.695 -1.578,0.695 ; 0,0.76 0.76,0.76 0.76,0
Top Assembly:
  lines w0.254: -1.42,-29.46 0,-29.46 0,-28.96 -1.42,-28.96 ; -1.42,-28.19 0,-28.19 0,-27.69 -1.42,-27.69 ; -1.42,-26.92 0,-26.92 0,-26.42 -1.42,-26.42 ; -1.42,-25.65 0,-25.65 0,-25.15 -1.42,-25.15 ; -1.42,-24.38 0,-24.38 0,-23.88 -1.42,-23.88 ; -1.42,-23.11 0,-23.11 0,-22.61 -1.42,-22.61 ; -1.42,-21.84 0,-21.84 0,-21.34 -1.42,-21.34 ; -1.42,-20.57 0,-20.57 0,-20.07 -1.42,-20.07 ; -1.42,-19.3 0,-19.3 0,-18.8 -1.42,-18.8 ; -1.42,-18.03 0,-18.03 0,-17.53 -1.42,-17.53 ; -1.42,-16.76 0,-16.76 0,-16.26 -1.42,-16.26 ; -1.42,-15.49 0,-15.49 0,-14.99 -1.42,-14.99 ; -1.42,-14.22 0,-14.22 0,-13.72 -1.42,-13.72 ; -1.42,-12.95 0,-12.95 0,-12.45 -1.42,-12.45 ; -1.42,-11.68 0,-11.68 0,-11.18 -1.42,-11.18 ; -1.42,-10.41 0,-10.41 0,-9.91 -1.42,-9.91 ; -1.42,-9.14 0,-9.14 0,-8.64 -1.42,-8.64 ; -1.42,-7.87 0,-7.87 0,-7.37 -1.42,-7.37 ; -1.42,-6.6 0,-6.6 0,-6.1 -1.42,-6.1 ; -1.42,-5.33 0,-5.33 0,-4.83 -1.42,-4.83 ; -1.42,-4.06 0,-4.06 0,-3.56 -1.42,-3.56 ; -1.42,-2.79 0,-2.79 0,-2.29 -1.42,-2.29 ; -1.42,-1.52 0,-1.52 0,-1.02 -1.42,-1.02 ; -1.42,-0.25 0,-0.25 0,0.25 -1.42,0.25 ; -1.42,0.25 -1.42,-29.845 -5.82,-29.845 -5.82,0.635 -1.805,0.635 -1.42,0.25
  text "'.Designator'" at -2.78,-18.652 h1
Top Courtyard:
  lines w0.254: -6.35,-30.4 1.15,-30.4 1.15,1.1 -6.35,1.1 -6.35,-30.4
Top Designator:
  text ".Designator" at -10.218,-15.158 h1.52

## PinSocket_2x24_P1.27mm_Vertical [mm]
pads (48):
  rect 1x1 hole 0.7: 1(0,0)
  round 1 hole 0.7: 2(-1.27,0) 3(0,-1.27) 4(-1.27,-1.27) 5(0,-2.54) 6(-1.27,-2.54) 7(0,-3.81) 8(-1.27,-3.81) 9(0,-5.08) 10(-1.27,-5.08) 11(0,-6.35) 12(-1.27,-6.35) 13(0,-7.62) 14(-1.27,-7.62) 15(0,-8.89) 16(-1.27,-8.89) 17(0,-10.16) 18(-1.27,-10.16) 19(0,-11.43) 20(-1.27,-11.43) 21(0,-12.7) 22(-1.27,-12.7) 23(0,-13.97) 24(-1.27,-13.97) 25(0,-15.24) 26(-1.27,-15.24) 27(0,-16.51) 28(-1.27,-16.51) 29(0,-17.78) 30(-1.27,-17.78) 31(0,-19.05) 32(-1.27,-19.05) 33(0,-20.32) 34(-1.27,-20.32) 35(0,-21.59) 36(-1.27,-21.59) 37(0,-22.86) 38(-1.27,-22.86) 39(0,-24.13) 40(-1.27,-24.13) 41(0,-25.4) 42(-1.27,-25.4) 43(0,-26.67) 44(-1.27,-26.67) 45(0,-27.94) 46(-1.27,-27.94) 47(0,-29.21) 48(-1.27,-29.21)
F.SilkS:
  lines w0.254: -1.578,-29.905 -2.22,-29.905 -2.22,0.695 -1.578,0.695 ; -0.962,-29.905 -0.308,-29.905 ; -0.962,0.695 -0.76,0.695 ; 0,0.76 0.95,0.76 0.95,0 ; 0.308,-29.905 0.95,-29.905 0.95,-0.635 0.76,-0.635
Top Assembly:
  lines w0.254: -2.16,-29.845 0.89,-29.845 0.89,-0.128 0.128,0.635 -2.16,0.635 -2.16,-29.845
  text "'.Designator'" at 0.205,-18.652 h1
Top Courtyard:
  lines w0.254: -2.67,-30.35 1.38,-30.35 1.38,1.15 -2.67,1.15 -2.67,-30.35
Top Designator:
  text ".Designator" at -8.263,-15.108 h1.52

## PinSocket_2x24_P1.27mm_Vertical_SMD [mm]
pads (48):
  rect 2.1x0.75 smd: 1(1.8,14.605) 2(-1.8,14.605) 3(1.8,13.335) 4(-1.8,13.335) 5(1.8,12.065) 6(-1.8,12.065) 7(1.8,10.795) 8(-1.8,10.795) 9(1.8,9.525) 10(-1.8,9.525) 11(1.8,8.255) 12(-1.8,8.255) 13(1.8,6.985) 14(-1.8,6.985) 15(1.8,5.715) 16(-1.8,5.715) 17(1.8,4.445) 18(-1.8,4.445) 19(1.8,3.175) 20(-1.8,3.175) 21(1.8,1.905) 22(-1.8,1.905) 23(1.8,0.635) 24(-1.8,0.635) 25(1.8,-0.635) 26(-1.8,-0.635) 27(1.8,-1.905) 28(-1.8,-1.905) 29(1.8,-3.175) 30(-1.8,-3.175) 31(1.8,-4.445) 32(-1.8,-4.445) 33(1.8,-5.715) 34(-1.8,-5.715) 35(1.8,-6.985) 36(-1.8,-6.985) 37(1.8,-8.255) 38(-1.8,-8.255) 39(1.8,-9.525) 40(-1.8,-9.525) 41(1.8,-10.795) 42(-1.8,-10.795) 43(1.8,-12.065) 44(-1.8,-12.065) 45(1.8,-13.335) 46(-1.8,-13.335) 47(1.8,-14.605) 48(-1.8,-14.605)
F.SilkS:
  lines w0.254: -1.33,-15.24 -1.33,-15.3 1.33,-15.3 1.33,-15.24 ; -1.33,15.24 -1.33,15.3 1.33,15.3 1.33,15.24 2.79,15.24
Top Assembly:
  lines w0.254: -1.27,-14.805 -2.555,-14.805 -2.555,-14.405 -1.27,-14.405 ; -1.27,-13.535 -2.555,-13.535 -2.555,-13.135 -1.27,-13.135 ; -1.27,-12.265 -2.555,-12.265 -2.555,-11.865 -1.27,-11.865 ; -1.27,-10.995 -2.555,-10.995 -2.555,-10.595 -1.27,-10.595 ; -1.27,-9.725 -2.555,-9.725 -2.555,-9.325 -1.27,-9.325 ; -1.27,-8.455 -2.555,-8.455 -2.555,-8.055 -1.27,-8.055 ; -1.27,-7.185 -2.555,-7.185 -2.555,-6.785 -1.27,-6.785 ; -1.27,-5.915 -2.555,-5.915 -2.555,-5.515 -1.27,-5.515 ; -1.27,-4.645 -2.555,-4.645 -2.555,-4.245 -1.27,-4.245 ; -1.27,-3.375 -2.555,-3.375 -2.555,-2.975 -1.27,-2.975 ; -1.27,-2.105 -2.555,-2.105 -2.555,-1.705 -1.27,-1.705 ; -1.27,-0.835 -2.555,-0.835 -2.555,-0.435 -1.27,-0.435 ; -1.27,0.435 -2.555,0.435 -2.555,0.835 -1.27,0.835 ; -1.27,1.705 -2.555,1.705 -2.555,2.105 -1.27,2.105 ; -1.27,2.975 -2.555,2.975 -2.555,3.375 -1.27,3.375 ; -1.27,4.245 -2.555,4.245 -2.555,4.645 -1.27,4.645 ; -1.27,5.515 -2.555,5.515 -2.555,5.915 -1.27,5.915 ; -1.27,6.785 -2.555,6.785 -2.555,7.185 -1.27,7.185 ; -1.27,8.055 -2.555,8.055 -2.555,8.455 -1.27,8.455 ; -1.27,9.325 -2.555,9.325 -2.555,9.725 -1.27,9.725 ; -1.27,10.595 -2.555,10.595 -2.555,10.995 -1.27,10.995 ; -1.27,11.865 -2.555,11.865 -2.555,12.265 -1.27,12.265 ; -1.27,13.135 -2.555,13.135 -2.555,13.535 -1.27,13.535 ; -1.27,14.405 -2.555,14.405 -2.555,14.805 -1.27,14.805 ; 1.27,-14.805 2.555,-14.805 2.555,-14.405 1.27,-14.405 ; 1.27,-13.535 2.555,-13.535 2.555,-13.135 1.27,-13.135 ; 1.27,-12.265 2.555,-12.265 2.555,-11.865 1.27,-11.865 ; 1.27,-10.995 2.555,-10.995 2.555,-10.595 1.27,-10.595 ; 1.27,-9.725 2.555,-9.725 2.555,-9.325 1.27,-9.325 ; 1.27,-8.455 2.555,-8.455 2.555,-8.055 1.27,-8.055 ; 1.27,-7.185 2.555,-7.185 2.555,-6.785 1.27,-6.785 ; 1.27,-5.915 2.555,-5.915 2.555,-5.515 1.27,-5.515 ; 1.27,-4.645 2.555,-4.645 2.555,-4.245 1.27,-4.245 ; 1.27,-3.375 2.555,-3.375 2.555,-2.975 1.27,-2.975 ; 1.27,-2.105 2.555,-2.105 2.555,-1.705 1.27,-1.705 ; 1.27,-0.835 2.555,-0.835 2.555,-0.435 1.27,-0.435 ; 1.27,0.435 2.555,0.435 2.555,0.835 1.27,0.835 ; 1.27,1.705 2.555,1.705 2.555,2.105 1.27,2.105 ; 1.27,2.975 2.555,2.975 2.555,3.375 1.27,3.375 ; 1.27,4.245 2.555,4.245 2.555,4.645 1.27,4.645 ; 1.27,5.515 2.555,5.515 2.555,5.915 1.27,5.915 ; 1.27,6.785 2.555,6.785 2.555,7.185 1.27,7.185 ; 1.27,8.055 2.555,8.055 2.555,8.455 1.27,8.455 ; 1.27,9.325 2.555,9.325 2.555,9.725 1.27,9.725 ; 1.27,10.595 2.555,10.595 2.555,10.995 1.27,10.995 ; 1.27,11.865 2.555,11.865 2.555,12.265 1.27,12.265 ; 1.27,13.135 2.555,13.135 2.555,13.535 1.27,13.535 ; 1.27,14.405 2.555,14.405 2.555,14.805 1.27,14.805 ; -1.27,-15.24 1.27,-15.24 1.27,14.605 0.635,15.24 -1.27,15.24 -1.27,-15.24
  text "'.Designator'" at 0.84,-4.047 h1
Top Courtyard:
  lines w0.254: -3.35,-15.75 3.35,-15.75 3.35,15.75 -3.35,15.75 -3.35,-15.75
Top Designator:
  text ".Designator" at -7.618,-0.508 h1.52

## PinSocket_2x25_P1.27mm_Horizontal [mm]
pads (50):
  rect 1x1 hole 0.65: 1(0,0)
  round 1 hole 0.65: 2(-1.27,0) 3(0,-1.27) 4(-1.27,-1.27) 5(0,-2.54) 6(-1.27,-2.54) 7(0,-3.81) 8(-1.27,-3.81) 9(0,-5.08) 10(-1.27,-5.08) 11(0,-6.35) 12(-1.27,-6.35) 13(0,-7.62) 14(-1.27,-7.62) 15(0,-8.89) 16(-1.27,-8.89) 17(0,-10.16) 18(-1.27,-10.16) 19(0,-11.43) 20(-1.27,-11.43) 21(0,-12.7) 22(-1.27,-12.7) 23(0,-13.97) 24(-1.27,-13.97) 25(0,-15.24) 26(-1.27,-15.24) 27(0,-16.51) 28(-1.27,-16.51) 29(0,-17.78) 30(-1.27,-17.78) 31(0,-19.05) 32(-1.27,-19.05) 33(0,-20.32) 34(-1.27,-20.32) 35(0,-21.59) 36(-1.27,-21.59) 37(0,-22.86) 38(-1.27,-22.86) 39(0,-24.13) 40(-1.27,-24.13) 41(0,-25.4) 42(-1.27,-25.4) 43(0,-26.67) 44(-1.27,-26.67) 45(0,-27.94) 46(-1.27,-27.94) 47(0,-29.21) 48(-1.27,-29.21) 49(0,-30.48) 50(-1.27,-30.48)
F.SilkS:
  lines w0.254: -5.88,-29.845 -1.688,-29.845 ; -5.88,-28.575 -1.688,-28.575 ; -5.88,-27.305 -1.688,-27.305 ; -5.88,-26.035 -1.688,-26.035 ; -5.88,-24.765 -1.688,-24.765 ; -5.88,-23.495 -1.688,-23.495 ; -5.88,-22.225 -1.688,-22.225 ; -5.88,-20.955 -1.688,-20.955 ; -5.88,-19.685 -1.688,-19.685 ; -5.88,-18.415 -1.688,-18.415 ; -5.88,-17.145 -1.688,-17.145 ; -5.88,-15.875 -1.688,-15.875 ; -5.88,-14.605 -1.688,-14.605 ; -5.88,-13.335 -1.688,-13.335 ; -5.88,-12.065 -1.688,-12.065 ; -5.88,-10.795 -1.688,-10.795 ; -5.88,-9.525 -1.688,-9.525 ; -5.88,-8.255 -1.688,-8.255 ; -5.88,-6.985 -1.688,-6.985 ; -5.88,-5.715 -1.688,-5.715 ; -5.88,-4.445 -1.688,-4.445 ; -5.88,-3.175 -1.688,-3.175 ; -5.88,-1.905 -1.688,-1.905 ; -5.88,-0.635 -1.688,-0.635 ; -5.88,-0.525 -1.82,-0.525 ; -5.88,-0.415 -1.907,-0.415 ; -5.88,-0.305 -1.966,-0.305 ; -5.88,-0.195 -2.005,-0.195 ; -5.88,-0.085 -2.025,-0.085 ; -5.88,0.025 -2.03,0.025 ; -5.88,0.135 -2.018,0.135 ; -5.88,0.245 -1.989,0.245 ; -5.88,0.355 -1.942,0.355 ; -5.88,0.465 -1.871,0.465 ; -5.88,0.575 -1.767,0.575 ; -1.578,-31.175 -5.88,-31.175 -5.88,0.695 -1.578,0.695 ; 0,0.76 0.76,0.76 0.76,0
Top Assembly:
  lines w0.254: -1.42,-30.73 0,-30.73 0,-30.23 -1.42,-30.23 ; -1.42,-29.46 0,-29.46 0,-28.96 -1.42,-28.96 ; -1.42,-28.19 0,-28.19 0,-27.69 -1.42,-27.69 ; -1.42,-26.92 0,-26.92 0,-26.42 -1.42,-26.42 ; -1.42,-25.65 0,-25.65 0,-25.15 -1.42,-25.15 ; -1.42,-24.38 0,-24.38 0,-23.88 -1.42,-23.88 ; -1.42,-23.11 0,-23.11 0,-22.61 -1.42,-22.61 ; -1.42,-21.84 0,-21.84 0,-21.34 -1.42,-21.34 ; -1.42,-20.57 0,-20.57 0,-20.07 -1.42,-20.07 ; -1.42,-19.3 0,-19.3 0,-18.8 -1.42,-18.8 ; -1.42,-18.03 0,-18.03 0,-17.53 -1.42,-17.53 ; -1.42,-16.76 0,-16.76 0,-16.26 -1.42,-16.26 ; -1.42,-15.49 0,-15.49 0,-14.99 -1.42,-14.99 ; -1.42,-14.22 0,-14.22 0,-13.72 -1.42,-13.72 ; -1.42,-12.95 0,-12.95 0,-12.45 -1.42,-12.45 ; -1.42,-11.68 0,-11.68 0,-11.18 -1.42,-11.18 ; -1.42,-10.41 0,-10.41 0,-9.91 -1.42,-9.91 ; -1.42,-9.14 0,-9.14 0,-8.64 -1.42,-8.64 ; -1.42,-7.87 0,-7.87 0,-7.37 -1.42,-7.37 ; -1.42,-6.6 0,-6.6 0,-6.1 -1.42,-6.1 ; -1.42,-5.33 0,-5.33 0,-4.83 -1.42,-4.83 ; -1.42,-4.06 0,-4.06 0,-3.56 -1.42,-3.56 ; -1.42,-2.79 0,-2.79 0,-2.29 -1.42,-2.29 ; -1.42,-1.52 0,-1.52 0,-1.02 -1.42,-1.02 ; -1.42,-0.25 0,-0.25 0,0.25 -1.42,0.25 ; -1.42,0.25 -1.42,-31.115 -5.82,-31.115 -5.82,0.635 -1.805,0.635 -1.42,0.25
  text "'.Designator'" at -2.78,-19.287 h1
Top Courtyard:
  lines w0.254: -6.35,-31.6 1.15,-31.6 1.15,1.15 -6.35,1.15 -6.35,-31.6
Top Designator:
  text ".Designator" at -10.218,-15.733 h1.52

## PinSocket_2x25_P1.27mm_Vertical [mm]
pads (50):
  rect 1x1 hole 0.7: 1(0,0)
  round 1 hole 0.7: 2(-1.27,0) 3(0,-1.27) 4(-1.27,-1.27) 5(0,-2.54) 6(-1.27,-2.54) 7(0,-3.81) 8(-1.27,-3.81) 9(0,-5.08) 10(-1.27,-5.08) 11(0,-6.35) 12(-1.27,-6.35) 13(0,-7.62) 14(-1.27,-7.62) 15(0,-8.89) 16(-1.27,-8.89) 17(0,-10.16) 18(-1.27,-10.16) 19(0,-11.43) 20(-1.27,-11.43) 21(0,-12.7) 22(-1.27,-12.7) 23(0,-13.97) 24(-1.27,-13.97) 25(0,-15.24) 26(-1.27,-15.24) 27(0,-16.51) 28(-1.27,-16.51) 29(0,-17.78) 30(-1.27,-17.78) 31(0,-19.05) 32(-1.27,-19.05) 33(0,-20.32) 34(-1.27,-20.32) 35(0,-21.59) 36(-1.27,-21.59) 37(0,-22.86) 38(-1.27,-22.86) 39(0,-24.13) 40(-1.27,-24.13) 41(0,-25.4) 42(-1.27,-25.4) 43(0,-26.67) 44(-1.27,-26.67) 45(0,-27.94) 46(-1.27,-27.94) 47(0,-29.21) 48(-1.27,-29.21) 49(0,-30.48) 50(-1.27,-30.48)
F.SilkS:
  lines w0.254: -1.578,-31.175 -2.22,-31.175 -2.22,0.695 -1.578,0.695 ; -0.962,-31.175 -0.308,-31.175 ; -0.962,0.695 -0.76,0.695 ; 0,0.76 0.95,0.76 0.95,0 ; 0.308,-31.175 0.95,-31.175 0.95,-0.635 0.76,-0.635
Top Assembly:
  lines w0.254: -2.16,-31.115 0.89,-31.115 0.89,-0.128 0.128,0.635 -2.16,0.635 -2.16,-31.115
  text "'.Designator'" at 0.205,-19.287 h1
Top Courtyard:
  lines w0.254: -2.67,-31.6 1.38,-31.6 1.38,1.15 -2.67,1.15 -2.67,-31.6
Top Designator:
  text ".Designator" at -8.263,-15.733 h1.52

## PinSocket_2x25_P1.27mm_Vertical_SMD [mm]
pads (50):
  rect 2.1x0.75 smd: 1(1.8,15.24) 2(-1.8,15.24) 3(1.8,13.97) 4(-1.8,13.97) 5(1.8,12.7) 6(-1.8,12.7) 7(1.8,11.43) 8(-1.8,11.43) 9(1.8,10.16) 10(-1.8,10.16) 11(1.8,8.89) 12(-1.8,8.89) 13(1.8,7.62) 14(-1.8,7.62) 15(1.8,6.35) 16(-1.8,6.35) 17(1.8,5.08) 18(-1.8,5.08) 19(1.8,3.81) 20(-1.8,3.81) 21(1.8,2.54) 22(-1.8,2.54) 23(1.8,1.27) 24(-1.8,1.27) 25(1.8,0) 26(-1.8,0) 27(1.8,-1.27) 28(-1.8,-1.27) 29(1.8,-2.54) 30(-1.8,-2.54) 31(1.8,-3.81) 32(-1.8,-3.81) 33(1.8,-5.08) 34(-1.8,-5.08) 35(1.8,-6.35) 36(-1.8,-6.35) 37(1.8,-7.62) 38(-1.8,-7.62) 39(1.8,-8.89) 40(-1.8,-8.89) 41(1.8,-10.16) 42(-1.8,-10.16) 43(1.8,-11.43) 44(-1.8,-11.43) 45(1.8,-12.7) 46(-1.8,-12.7) 47(1.8,-13.97) 48(-1.8,-13.97) 49(1.8,-15.24) 50(-1.8,-15.24)
F.SilkS:
  lines w0.254: -1.33,-15.875 -1.33,-15.935 1.33,-15.935 1.33,-15.875 ; -1.33,15.875 -1.33,15.935 1.33,15.935 1.33,15.875 2.79,15.875
Top Assembly:
  drawing of 155 lines, arcs and shapes, not listed
  text "'.Designator'" at 0.84,-4.047 h1
Top Courtyard:
  lines w0.254: -3.35,-16.35 3.35,-16.35 3.35,16.4 -3.35,16.4 -3.35,-16.35
Top Designator:
  text ".Designator" at -7.618,-0.483 h1.52

## PinSocket_2x26_P1.27mm_Horizontal [mm]
pads (52):
  rect 1x1 hole 0.65: 1(0,0)
  round 1 hole 0.65: 2(-1.27,0) 3(0,-1.27) 4(-1.27,-1.27) 5(0,-2.54) 6(-1.27,-2.54) 7(0,-3.81) 8(-1.27,-3.81) 9(0,-5.08) 10(-1.27,-5.08) 11(0,-6.35) 12(-1.27,-6.35) 13(0,-7.62) 14(-1.27,-7.62) 15(0,-8.89) 16(-1.27,-8.89) 17(0,-10.16) 18(-1.27,-10.16) 19(0,-11.43) 20(-1.27,-11.43) 21(0,-12.7) 22(-1.27,-12.7) 23(0,-13.97) 24(-1.27,-13.97) 25(0,-15.24) 26(-1.27,-15.24) 27(0,-16.51) 28(-1.27,-16.51) 29(0,-17.78) 30(-1.27,-17.78) 31(0,-19.05) 32(-1.27,-19.05) 33(0,-20.32) 34(-1.27,-20.32) 35(0,-21.59) 36(-1.27,-21.59) 37(0,-22.86) 38(-1.27,-22.86) 39(0,-24.13) 40(-1.27,-24.13) 41(0,-25.4) 42(-1.27,-25.4) 43(0,-26.67) 44(-1.27,-26.67) 45(0,-27.94) 46(-1.27,-27.94) 47(0,-29.21) 48(-1.27,-29.21) 49(0,-30.48) 50(-1.27,-30.48) 51(0,-31.75) 52(-1.27,-31.75)
F.SilkS:
  lines w0.254: -5.88,-31.115 -1.688,-31.115 ; -5.88,-29.845 -1.688,-29.845 ; -5.88,-28.575 -1.688,-28.575 ; -5.88,-27.305 -1.688,-27.305 ; -5.88,-26.035 -1.688,-26.035 ; -5.88,-24.765 -1.688,-24.765 ; -5.88,-23.495 -1.688,-23.495 ; -5.88,-22.225 -1.688,-22.225 ; -5.88,-20.955 -1.688,-20.955 ; -5.88,-19.685 -1.688,-19.685 ; -5.88,-18.415 -1.688,-18.415 ; -5.88,-17.145 -1.688,-17.145 ; -5.88,-15.875 -1.688,-15.875 ; -5.88,-14.605 -1.688,-14.605 ; -5.88,-13.335 -1.688,-13.335 ; -5.88,-12.065 -1.688,-12.065 ; -5.88,-10.795 -1.688,-10.795 ; -5.88,-9.525 -1.688,-9.525 ; -5.88,-8.255 -1.688,-8.255 ; -5.88,-6.985 -1.688,-6.985 ; -5.88,-5.715 -1.688,-5.715 ; -5.88,-4.445 -1.688,-4.445 ; -5.88,-3.175 -1.688,-3.175 ; -5.88,-1.905 -1.688,-1.905 ; -5.88,-0.635 -1.688,-0.635 ; -5.88,-0.525 -1.82,-0.525 ; -5.88,-0.415 -1.907,-0.415 ; -5.88,-0.305 -1.966,-0.305 ; -5.88,-0.195 -2.005,-0.195 ; -5.88,-0.085 -2.025,-0.085 ; -5.88,0.025 -2.03,0.025 ; -5.88,0.135 -2.018,0.135 ; -5.88,0.245 -1.989,0.245 ; -5.88,0.355 -1.942,0.355 ; -5.88,0.465 -1.871,0.465 ; -5.88,0.575 -1.767,0.575 ; -1.578,-32.445 -5.88,-32.445 -5.88,0.695 -1.578,0.695 ; 0,0.76 0.76,0.76 0.76,0
Top Assembly:
  lines w0.254: -1.42,-32 0,-32 0,-31.5 -1.42,-31.5 ; -1.42,-30.73 0,-30.73 0,-30.23 -1.42,-30.23 ; -1.42,-29.46 0,-29.46 0,-28.96 -1.42,-28.96 ; -1.42,-28.19 0,-28.19 0,-27.69 -1.42,-27.69 ; -1.42,-26.92 0,-26.92 0,-26.42 -1.42,-26.42 ; -1.42,-25.65 0,-25.65 0,-25.15 -1.42,-25.15 ; -1.42,-24.38 0,-24.38 0,-23.88 -1.42,-23.88 ; -1.42,-23.11 0,-23.11 0,-22.61 -1.42,-22.61 ; -1.42,-21.84 0,-21.84 0,-21.34 -1.42,-21.34 ; -1.42,-20.57 0,-20.57 0,-20.07 -1.42,-20.07 ; -1.42,-19.3 0,-19.3 0,-18.8 -1.42,-18.8 ; -1.42,-18.03 0,-18.03 0,-17.53 -1.42,-17.53 ; -1.42,-16.76 0,-16.76 0,-16.26 -1.42,-16.26 ; -1.42,-15.49 0,-15.49 0,-14.99 -1.42,-14.99 ; -1.42,-14.22 0,-14.22 0,-13.72 -1.42,-13.72 ; -1.42,-12.95 0,-12.95 0,-12.45 -1.42,-12.45 ; -1.42,-11.68 0,-11.68 0,-11.18 -1.42,-11.18 ; -1.42,-10.41 0,-10.41 0,-9.91 -1.42,-9.91 ; -1.42,-9.14 0,-9.14 0,-8.64 -1.42,-8.64 ; -1.42,-7.87 0,-7.87 0,-7.37 -1.42,-7.37 ; -1.42,-6.6 0,-6.6 0,-6.1 -1.42,-6.1 ; -1.42,-5.33 0,-5.33 0,-4.83 -1.42,-4.83 ; -1.42,-4.06 0,-4.06 0,-3.56 -1.42,-3.56 ; -1.42,-2.79 0,-2.79 0,-2.29 -1.42,-2.29 ; -1.42,-1.52 0,-1.52 0,-1.02 -1.42,-1.02 ; -1.42,-0.25 0,-0.25 0,0.25 -1.42,0.25 ; -1.42,0.25 -1.42,-32.385 -5.82,-32.385 -5.82,0.635 -1.805,0.635 -1.42,0.25
  text "'.Designator'" at -2.78,-19.922 h1
Top Courtyard:
  lines w0.254: -6.35,-32.9 1.15,-32.9 1.15,1.15 -6.35,1.15 -6.35,-32.9
Top Designator:
  text ".Designator" at -10.218,-16.383 h1.52